# Altium footprint library SnapEDApcb.PcbLib: 1 footprints
Each footprint in its own frame and in the unit in brackets; x right, y up, seen from the top. Pads: shape width x height; smd on the part's side, far side on the other; paste and mask are expansions set on the pad; w line width, h text height; cw(c..) or ccw(c..) is an arc to the next point about the centre after c.
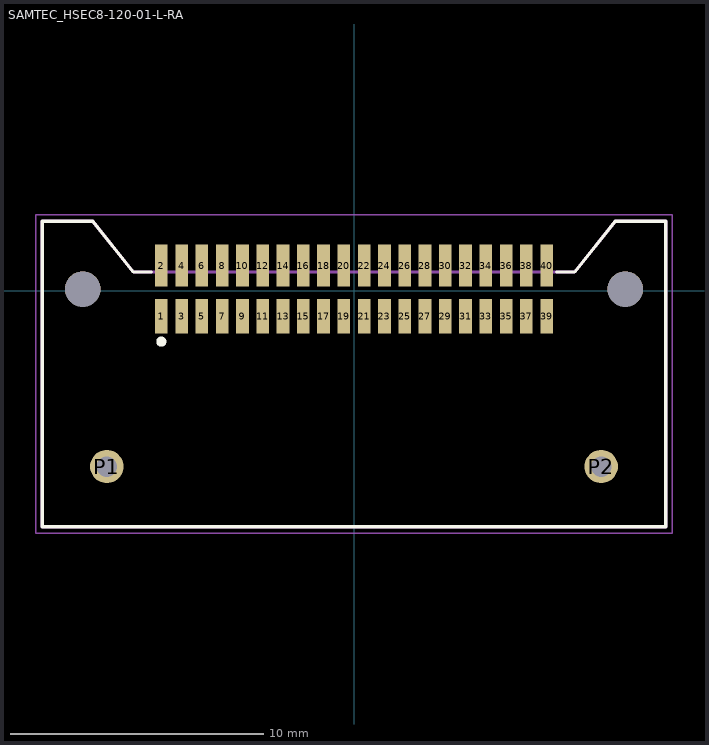
[diagram p0: the footprint, top view; thin cyan lines are the x and y axes]

## SAMTEC_HSEC8-120-01-L-RA [mm]
pads (44):
  rect 0.5x1.35 smd: 1(-7.6,-1) 3(-6.8,-1) 5(-6,-1) 7(-5.2,-1) 9(-4.4,-1) 11(-3.6,-1) 13(-2.8,-1) 15(-2,-1) 17(-1.2,-1) 19(-0.4,-1) 21(0.4,-1) 23(1.2,-1) 25(2,-1) 27(2.8,-1) 29(3.6,-1) 31(4.4,-1) 33(5.2,-1) 35(6,-1) 37(6.8,-1) 39(7.6,-1)
  rect 0.5x1.65 smd: 2(-7.6,1) 4(-6.8,1) 6(-6,1) 8(-5.2,1) 10(-4.4,1) 12(-3.6,1) 14(-2.8,1) 16(-2,1) 18(-1.2,1) 20(-0.4,1) 22(0.4,1) 24(1.2,1) 26(2,1) 28(2.8,1) 30(3.6,1) 32(4.4,1) 34(5.2,1) 36(6,1) 38(6.8,1) 40(7.6,1)
  round 1.318 hole 0.81: P1(-9.75,-6.925) P2(9.75,-6.925)
  round 1.4 hole 1.4 unplated: ""(-10.7,0.075) ""(10.7,0.075)
Top Overlay:
  circle w0.2: c-7.6,-2 r0.1
  lines w0.127: -8,0.75 -8.7,0.75 -10.3,2.75 -12.3,2.75 -12.3,-9.3 12.3,-9.3 12.3,2.75 10.3,2.75 8.7,0.75 8,0.75
Mechanical 13:
  lines w0.127: -10.33,2.75 -12.3,2.75 -12.3,-9.3 12.3,-9.3 12.3,2.75 10.3,2.75 8.7,0.75 -8.7,0.75 -10.3,2.75
  text "PCB EDGE" at -1.853,-9.062 h0.61
Mechanical 15:
  lines w0.05: -12.55,-9.55 12.55,-9.55 12.55,3 -12.55,3 -12.55,-9.55